# Altium integrated library WE-EHPI_rev16a.intlib: 3 symbols
Pins are listed as number, name and electrical type; pins without a type are passive.

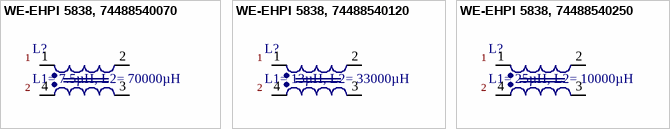
[diagram p0: symbols WE-EHPI 5838, 74488540070 to WE-EHPI 5838, 74488540250]

## WE-EHPI 5838, 74488540070
designator L?, comment L1= 7.5µH, L2= 70000µH
WE-EHPI Energy Harvesting Coupled Inductor, L1= 7.5µH, L2= 70000µH; partNo: 74488540070; Manufacturer: Wurth Elektronik; Inductance: L1= 7.5µH, L2= 70000µH; ComponentLink1Description: Manufacturer; ComponentLink1URL: http://www.we-online.de; Created by: Baojun Chen; Created Date: Jan.2016; ComponentLink2Description: Datasheet; ComponentLink2URL: http://katalog.we-online.de/pbs/datasheet/74488540070.pdf
footprint WE-EHPI_5838 (Power Inductor 4-Leads, SMD, Body 6.0 x 6.0mm)
pins: 1, 2, 3, 4

## WE-EHPI 5838, 74488540120
designator L?, comment L1= 13µH, L2= 33000µH
WE-EHPI Energy Harvesting Coupled Inductor, L1= 13µH, L2= 33000µH; partNo: 74488540120; Manufacturer: Wurth Elektronik; Inductance: L1= 13µH, L2= 33000µH; ComponentLink1Description: Manufacturer; ComponentLink1URL: http://www.we-online.de; Created by: Baojun Chen; Created Date: Jan.2016; ComponentLink2Description: Datasheet; ComponentLink2URL: http://katalog.we-online.de/pbs/datasheet/74488540120.pdf
footprint WE-EHPI_5838 (Power Inductor 4-Leads, SMD, Body 6.0 x 6.0mm)
pins: 1, 2, 3, 4

## WE-EHPI 5838, 74488540250
designator L?, comment L1= 25µH, L2= 10000µH
WE-EHPI Energy Harvesting Coupled Inductor, L1= 25µH, L2= 10000µH; partNo: 74488540250; Manufacturer: Wurth Elektronik; Inductance: L1= 25µH, L2= 10000µH; ComponentLink1Description: Manufacturer; ComponentLink1URL: http://www.we-online.de; Created by: Baojun Chen; Created Date: Jan.2016; ComponentLink2Description: Datasheet; ComponentLink2URL: http://katalog.we-online.de/pbs/datasheet/74488540250.pdf
footprint WE-EHPI_5838 (Power Inductor 4-Leads, SMD, Body 6.0 x 6.0mm)
pins: 1, 2, 3, 4